# EAGLE library part DISPLAY_TFT_SPI (library biblioteca display tft v4)
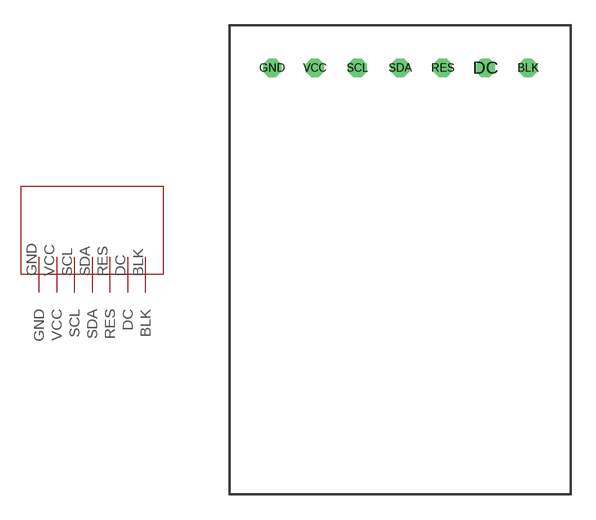
[diagram p0: symbol with the pads of PERIMETRO_DISPLAY_TFT; footprint PERIMETRO_DISPLAY_TFT]

Designator prefix -

## DISPLAY_TFT_SPI  [PERIMETRO_DISPLAY_TFT]
BLK  BLK
DC  DC
GND  GND
RES  RES
SCL  SCL
SDA  SDA
VCC  VCC

## Footprint PERIMETRO_DISPLAY_TFT (pad centres in mm)
drill 0.6 octagon: BLK 15.24,0; DC 12.7,0; GND 0,0; RES 10.16,0; SCL 5.08,0; SDA 7.62,0; VCC 2.54,0